# EAGLE library part CY15B104QN-50SXIES (library CY15B104QN-50SXIES)
F-RAM 4Mb Indutrial Temp. 50MHz SPI 1.8-3.6V Source: Datasheet <https://www.cypress.com/file/444216/download>
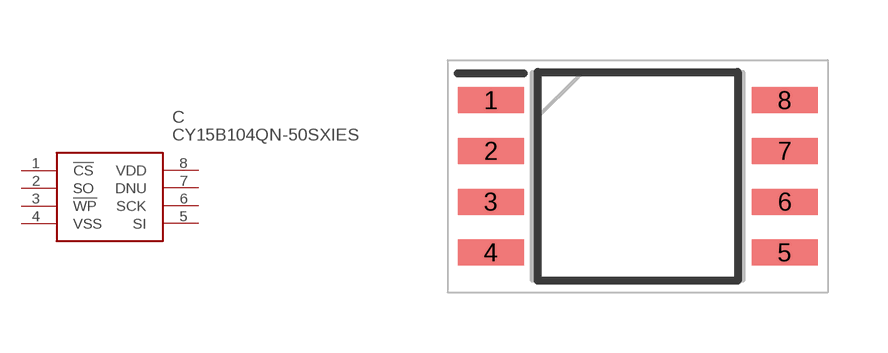
[diagram p0: symbol with the pads of SOIC127P800X203-8N; footprint SOIC127P800X203-8N]

Designator prefix C

## CY15B104QN-50SXIES (Arrow_Part_Number: CY15B104QN-50SXIES; Arrow_Price-Stock: https://www.arrow.com/en/products/cy15b104qn-50sxies/cypress-semiconductor; Description: F-RAM 4Mb Indutrial Temp. 50MHz SPI 1.8-3.6V; Height: 2.03mm; Manufacturer_Name: Cypress Semiconductor; Manufacturer_Part_Number: CY15B104QN-50SXIES; Mouser_Part_Number: 727-CY15B104QN50SXI; Mouser_Price-Stock: https://www.mouser.com/Search/Refine.aspx?Keyword=727-CY15B104QN50SXI)  [SOIC127P800X203-8N]
1  !CS
2  SO
3  !WP
4  VSS
5  SI
6  SCK
7  DNU
8  VDD

## Footprint SOIC127P800X203-8N (pad centres in mm)
CY15B104QN-50SXIES
smd 1.65 x 0.65: 1 -3.675,1.905; 2 -3.675,0.635; 3 -3.675,-0.635; 4 -3.675,-1.905; 5 3.675,-1.905; 6 3.675,-0.635; 7 3.675,0.635; 8 3.675,1.905